# EAGLE library part ESP-WROOM-32_(16MB) (library ESP-WROOM-32_(16MB))
WiFi Modules (802.11) SMD Module, ESP32-D0WDQ6, 128Mbits SPI flash, UART Mode Source: Datasheet <https://www.mouser.com/datasheet/2/891/esp-wroom-32_datasheet_en-1365813.pdf>
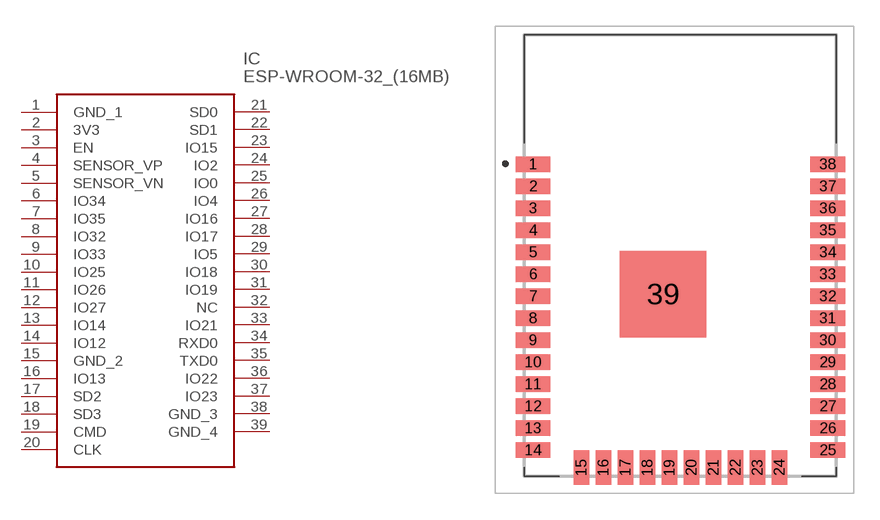
[diagram p0: symbol with the pads of ESP32WROOM32D; footprint ESP32WROOM32D]

Designator prefix IC

## ESP-WROOM-32_(16MB) (Description: WiFi Modules (802.11) SMD Module, ESP32-D0WDQ6, 128Mbits SPI flash, UART Mode; Height: 3.1mm; Manufacturer_Name: Espressif; Manufacturer_Part_Number: ESP-WROOM-32 (16MB); Mouser_Part_Number: 356-ESPWROOM3216MB)  [ESP32WROOM32D]
1  GND_1
2  3V3
3  EN
4  SENSOR_VP
5  SENSOR_VN
6  IO34
7  IO35
8  IO32
9  IO33
10  IO25
11  IO26
12  IO27
13  IO14
14  IO12
15  GND_2
16  IO13
17  SD2
18  SD3
19  CMD
20  CLK
21  SD0
22  SD1
23  IO15
24  IO2
25  IO0
26  IO4
27  IO16
28  IO17
29  IO5
30  IO18
31  IO19
32  NC  nc
33  IO21
34  RXD0
35  TXD0
36  IO22
37  IO23
38  GND_3
39  GND_4

## Footprint ESP32WROOM32D (pad centres in mm)
ESP32-WROOM-32D-1
smd 2 x 0.9: 1 -8.15,5.51; 2 -8.15,4.24; 3 -8.15,2.97; 4 -8.15,1.7; 5 -8.15,0.43; 6 -8.15,-0.84; 7 -8.15,-2.11; 8 -8.15,-3.38; 9 -8.15,-4.65; 10 -8.15,-5.92; 11 -8.15,-7.19; 12 -8.15,-8.46; 13 -8.15,-9.73; 14 -8.15,-11; 25 8.85,-11; 26 8.85,-9.73; 27 8.85,-8.46; 28 8.85,-7.19; 29 8.85,-5.92; 30 8.85,-4.65; 31 8.85,-3.38; 32 8.85,-2.11; 33 8.85,-0.84; 34 8.85,0.43; 35 8.85,1.7; 36 8.85,2.97; 37 8.85,4.24; 38 8.85,5.51
smd 0.9 x 2: 15 -5.365,-12; 16 -4.095,-12; 17 -2.825,-12; 18 -1.555,-12; 19 -0.285,-12; 20 0.985,-12; 21 2.255,-12; 22 3.525,-12; 23 4.795,-12; 24 6.065,-12
smd 5 x 5: 39 -0.65,-1.99